# EAGLE library part 7P (library ZOMGTHEREMINBBQLOL)
Toko Type 7P Variable Inductors
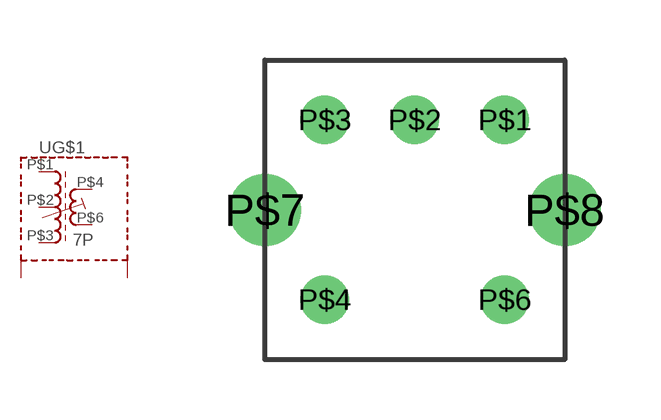
[diagram p1: symbol with the pads of 7P; footprint 7P]

Designator prefix -; gates G$1=10K G$2=10KSHEILD

## 7P  [7P]
P$1  G$1:A1  pas
P$2  G$1:Z  pas
P$3  G$1:E1  pas
P$4  G$1:A2  pas
P$6  G$1:E2  pas
P$7  G$2:S1  pas
P$8  G$2:S2  pas

## Footprint 7P (pad centres in mm)
drill 0.7 round: P$1 2.25,2.25; P$2 0,2.25; P$3 -2.25,2.25; P$4 -2.25,-2.25; P$6 2.25,-2.25
drill 1.2 round: P$7 -3.75,0; P$8 3.75,0